# Altium footprint library Memory Connectors.PcbLib: 1 footprints
Each footprint in its own frame and in the unit in brackets; x right, y up, seen from the top. Pads: shape width x height; smd on the part's side, far side on the other; paste and mask are expansions set on the pad; w line width, h text height; cw(c..) or ccw(c..) is an arc to the next point about the centre after c.
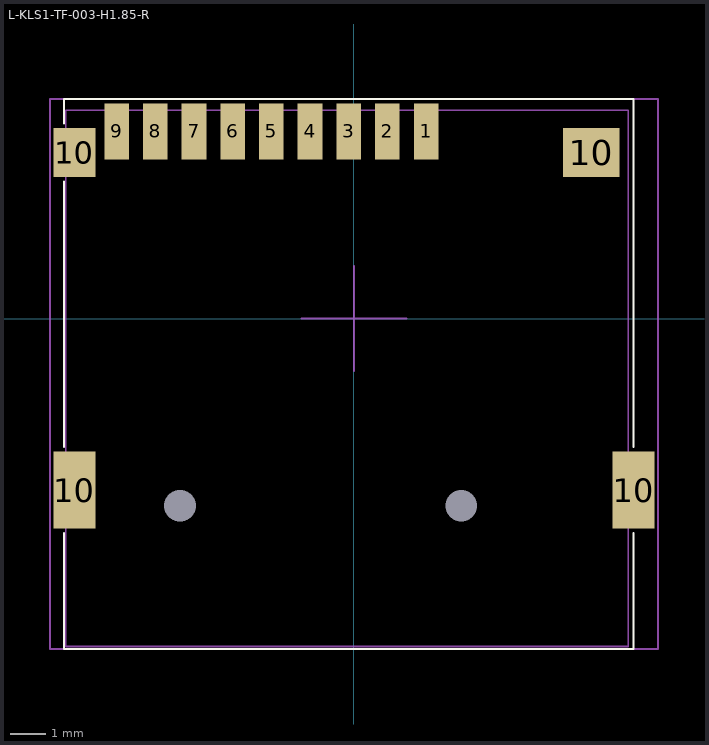
[diagram p0: the footprint, top view; thin cyan lines are the x and y axes]

## L-KLS1-TF-003-H1.85-R [mm]
pads (15):
  rect 0.7x1.6 smd mask+0.05: 1(2.05,5.325) 2(0.95,5.325) 3(-0.15,5.325) 4(-1.25,5.325) 5(-2.35,5.325) 6(-3.45,5.325) 7(-4.55,5.325) 8(-5.65,5.325) 9(-6.75,5.325)
  rect 1.2x2.2 smd paste+0 mask+0.05: 10(-7.95,-4.875) 10(7.95,-4.875)
  rect 1.2x1.4 smd mask+0.05: 10(-7.95,4.725)
  rect 1.6x1.4 smd mask+0.05: 10(6.75,4.725)
  round 0 hole 0.9 unplated paste-1000 mask+0: ""(-4.95,-5.325) ""(3.05,-5.325)
Top Overlay:
  lines w0.05: -8.25,-6.1 -8.25,-9.4 7.95,-9.4 7.95,-6.1 ; -8.25,-3.65 -8.25,3.9 ; -8.25,5.55 -8.25,6.25 7.95,6.25 7.95,-3.65
Top 3D Body:
  lines w0.05: -8.2,-9.325 7.8,-9.325 7.8,5.925 -8.2,5.925 -8.2,-9.325
Top Component Center:
  lines w0.05: -1.5,0 1.5,0 ; 0,-1.5 0,1.5 ; -8.65,-9.4 -8.65,6.25 7.95,6.25 8.65,6.25 8.65,-9.4 7.95,-9.4 -8.65,-9.4
Top Designator:
  lines w0.05: -8.65,-9.4 -8.65,6.25 8.65,6.25 8.65,-9.4 -8.65,-9.4
  text ".Designator" at -0.118,-0.508 h1.52
3D body "User Library-MEM2055-00-190-01-A_revG.step": height 1.95, standoff -0.5, extent -8.2,-9.325 7.8,5.925